# EAGLE library part TUSB9261IPVP (library TUSB9261IPVP)
USB 3.0 5 Gbps to SATA Bridge Source: Datasheet <http://www.ti.com/lit/gpn/tusb9261>
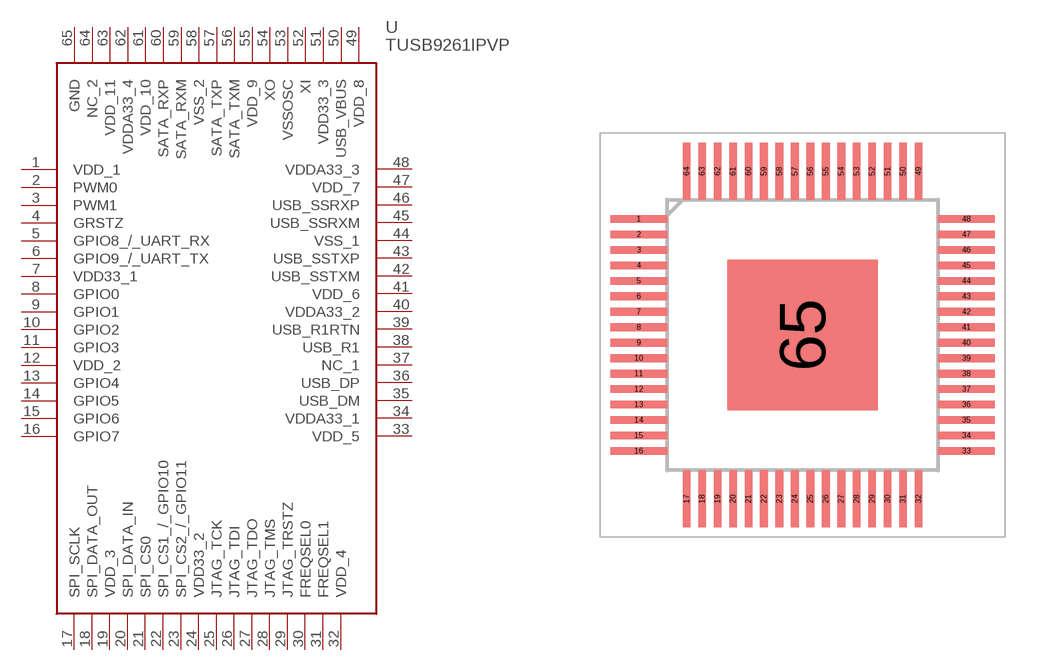
[diagram p0: symbol with the pads of QFP40P900X900X120-65N; footprint QFP40P900X900X120-65N]

Designator prefix U

## TUSB9261IPVP (Arrow_Part_Number: TUSB9261IPVP; Arrow_Price-Stock: https://www.arrow.com/en/products/tusb9261ipvp/texas-instruments?region=nac; Description: USB 3.0 5 Gbps to SATA Bridge; Height: 1.2mm; Manufacturer_Name: Texas Instruments; Manufacturer_Part_Number: TUSB9261IPVP; Mouser_Part_Number: 595-TUSB9261IPVP; Mouser_Price-Stock: https://www.mouser.co.uk/ProductDetail/Texas-Instruments/TUSB9261IPVP?qs=FBI%252BX3tnPf1SUg0QkfZf9Q%3D%3D)  [QFP40P900X900X120-65N]
1  VDD_1
2  PWM0
3  PWM1
4  GRSTZ
5  GPIO8_/_UART_RX
6  GPIO9_/_UART_TX
7  VDD33_1
8  GPIO0
9  GPIO1
10  GPIO2
11  GPIO3
12  VDD_2
13  GPIO4
14  GPIO5
15  GPIO6
16  GPIO7
17  SPI_SCLK
18  SPI_DATA_OUT
19  VDD_3
20  SPI_DATA_IN
21  SPI_CS0
22  SPI_CS1_/_GPIO10
23  SPI_CS2_/_GPIO11
24  VDD33_2
25  JTAG_TCK
26  JTAG_TDI
27  JTAG_TDO
28  JTAG_TMS
29  JTAG_TRSTZ
30  FREQSEL0
31  FREQSEL1
32  VDD_4
33  VDD_5
34  VDDA33_1
35  USB_DM
36  USB_DP
37  NC_1
38  USB_R1
39  USB_R1RTN
40  VDDA33_2
41  VDD_6
42  USB_SSTXM
43  USB_SSTXP
44  VSS_1
45  USB_SSRXM
46  USB_SSRXP
47  VDD_7
48  VDDA33_3
49  VDD_8
50  USB_VBUS
51  VDD33_3
52  XI
53  VSSOSC
54  XO
55  VDD_9
56  SATA_TXM
57  SATA_TXP
58  VSS_2
59  SATA_RXM
60  SATA_RXP
61  VDD_10
62  VDDA33_4
63  VDD_11
64  NC_2
65  GND

## Footprint QFP40P900X900X120-65N (pad centres in mm)
TUSB9261IPVP-1
smd 1.475 x 0.2: 1 -4.238,3; 2 -4.238,2.6; 3 -4.238,2.2; 4 -4.238,1.8; 5 -4.238,1.4; 6 -4.238,1; 7 -4.238,0.6; 8 -4.238,0.2; 9 -4.238,-0.2; 10 -4.238,-0.6; 11 -4.238,-1; 12 -4.238,-1.4; 13 -4.238,-1.8; 14 -4.238,-2.2; 15 -4.238,-2.6; 16 -4.238,-3; 33 4.238,-3; 34 4.238,-2.6; 35 4.238,-2.2; 36 4.238,-1.8; 37 4.238,-1.4; 38 4.238,-1; 39 4.238,-0.6; 40 4.238,-0.2; 41 4.238,0.2; 42 4.238,0.6; 43 4.238,1; 44 4.238,1.4; 45 4.238,1.8; 46 4.238,2.2; 47 4.238,2.6; 48 4.238,3
smd 0.2 x 1.475: 17 -3,-4.238; 18 -2.6,-4.238; 19 -2.2,-4.238; 20 -1.8,-4.238; 21 -1.4,-4.238; 22 -1,-4.238; 23 -0.6,-4.238; 24 -0.2,-4.238; 25 0.2,-4.238; 26 0.6,-4.238; 27 1,-4.238; 28 1.4,-4.238; 29 1.8,-4.238; 30 2.2,-4.238; 31 2.6,-4.238; 32 3,-4.238; 49 3,4.238; 50 2.6,4.238; 51 2.2,4.238; 52 1.8,4.238; 53 1.4,4.238; 54 1,4.238; 55 0.6,4.238; 56 0.2,4.238; 57 -0.2,4.238; 58 -0.6,4.238; 59 -1,4.238; 60 -1.4,4.238; 61 -1.8,4.238; 62 -2.2,4.238; 63 -2.6,4.238; 64 -3,4.238
smd 3.9 x 3.9: 65 0,0